# EAGLE library part CON7 (library simple-parts)
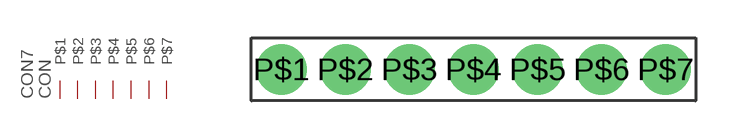
[diagram p5: symbol with the pads of PINPLUG7; footprint PINPLUG7]

Designator prefix CON

## CON7PINPLUG7  [PINPLUG7]
P$1  P$1
P$2  P$2
P$3  P$3
P$4  P$4
P$5  P$5
P$6  P$6
P$7  P$7

## Footprint PINPLUG7 (pad centres in mm)
drill 0.9 pad 2: P$1 -7.62,0; P$2 -5.08,0; P$3 -2.54,0; P$4 0,0; P$5 2.54,0; P$6 5.08,0; P$7 7.62,0